# Altium footprint library CAPC_1206.PcbLib: 1 footprints
Each footprint in its own frame and in the unit in brackets; x right, y up, seen from the top. Pads: shape width x height; smd on the part's side, far side on the other; paste and mask are expansions set on the pad; w line width, h text height; cw(c..) or ccw(c..) is an arc to the next point about the centre after c.
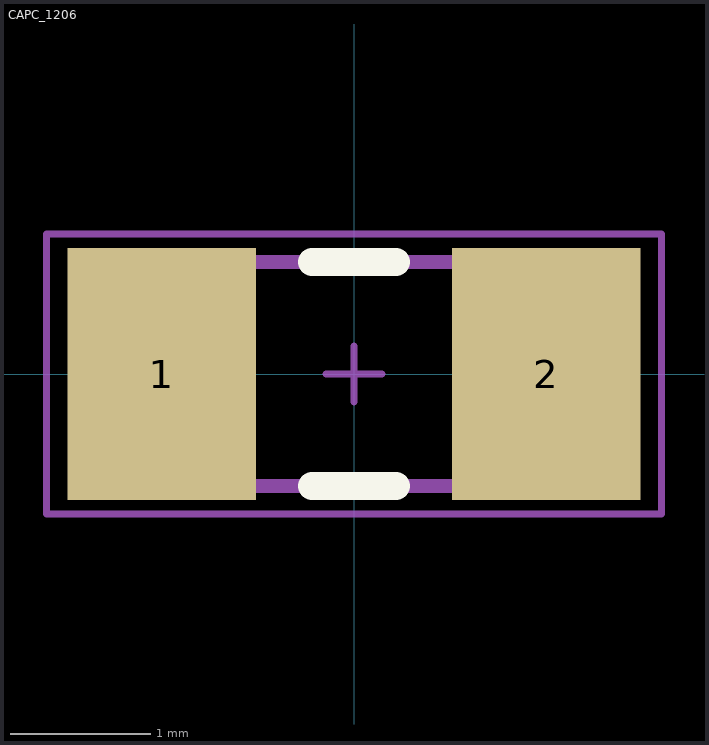
[diagram p0: the footprint, top view; thin cyan lines are the x and y axes]

## CAPC_1206 [mm] "CAPC_1206"
height 1.8
pads (2):
  rect 1.35x1.8 smd: 1(-1.375,0) 2(1.375,0)
Top Overlay:
  lines w0.2: -0.3,-0.8 0.3,-0.8 ; -0.3,0.8 0.3,0.8
Mechanical 13:
  lines w0.1: -1.6,-0.8 1.6,-0.8 1.6,0.8 -1.6,0.8 -1.6,-0.8
Mechanical 15:
  lines w0.05: -0.2,0 0.2,0 ; 0,-0.2 0,0.2 ; -2.2,-1 -2.2,1 2.2,1 2.2,-1 -2.2,-1
3D body "CAP,SMD,1206.step": height 1, standoff 0, extent -1.6,-0.8 1.6,0.8